# Altium schematic symbol library SSQ-106-03-T-S.SchLib: 1 symbol
Pins are listed as number, name and electrical type; pins without a type are passive.

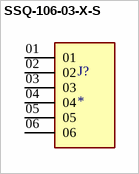
[diagram p0: symbol SSQ-106-03-X-S]

## SSQ-106-03-X-S
designator J?
6 Position Receptacle Connector Through Hole; MF: {'manufacturer': u'Samtec Inc.'}; MP: SSQ-106-03-X-S; Value: *; Price: None; Availability: Unavailable; Package: None
footprint SAMTEC_SSQ-106-03-X-S
pins: 01, 02, 03, 04, 05, 06